# EAGLE library part 254T (library 254TB103B50B)
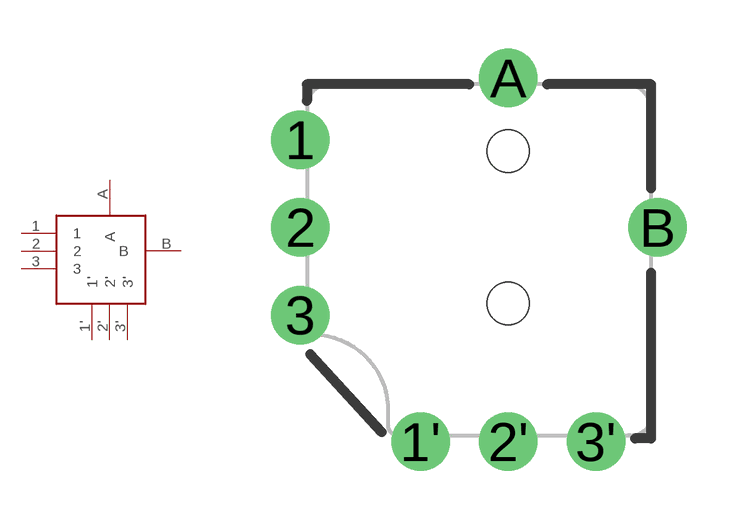
[diagram p0: symbol with the pads of 254T; footprint 254T]

Designator prefix -

## 254T  [254T]
1  1
1'  1'
2  2
2'  2'
3  3
3'  3'
A  A
B  B

## Footprint 254T (pad centres in mm)
drill 1.2: 1 -6.4,2.7; 1' -2.7,-6.6; 2 -6.4,0; 2' 0,-6.6; 3 -6.4,-2.7; 3' 2.7,-6.6; A 0,4.6; B 4.6,0
hole 1.3 at 0,2.35
hole 1.3 at 0,-2.35